# EAGLE library part ASM_ADAFRUIT_SOUND_FX_BOARD (library HUM-ASM-001)
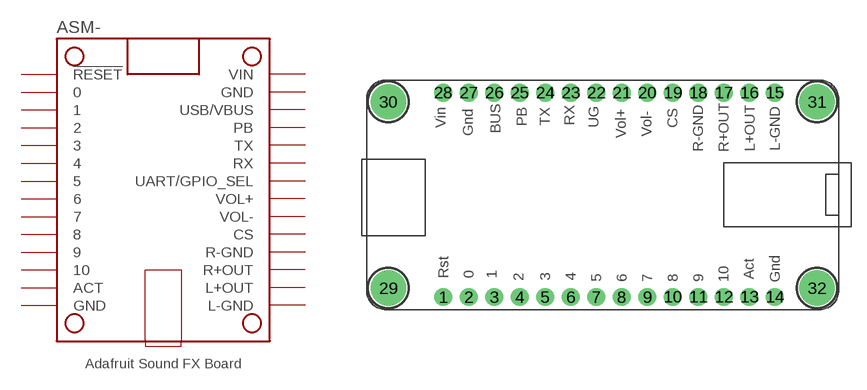
[diagram p2: symbol with the pads of ASM_ADAFRUIT_SOUND_FX_BOARD; footprint ASM_ADAFRUIT_SOUND_FX_BOARD]

Designator prefix ASM-

## ASM_ADAFRUIT_SOUND_FX_BOARD  [ASM_ADAFRUIT_SOUND_FX_BOARD]
1  !RESET  in
2  0  in
3  1  in
4  2  in
5  3  in
6  4  in
7  5  in
8  6  in
9  7  in
10  8  in
11  9  in
12  10  in
13  ACT  out
14  GND  pwr
15  L-GND  pwr
16  L+OUT  out
17  R+OUT  out
18  R-GND
19  CS  nc
20  VOL-  in
21  VOL+  in
22  UART/GPIO_SEL
23  RX  in
24  TX  out
25  PB  nc
26  USB/VBUS  sup
27  GND  pwr
28  VIN  pwr

## Footprint ASM_ADAFRUIT_SOUND_FX_BOARD (pad centres in mm)
drill 1 pad 1.778: 1 -15.38,-9.73; 2 -12.84,-9.73; 3 -10.3,-9.73; 4 -7.76,-9.73; 5 -5.22,-9.73; 6 -2.68,-9.73; 7 -0.14,-9.73; 8 2.4,-9.73; 9 4.94,-9.73; 10 7.48,-9.73; 11 10.02,-9.73; 12 12.56,-9.73; 13 15.1,-9.73; 14 17.64,-9.73; 15 17.64,10.59; 16 15.1,10.59; 17 12.56,10.59; 18 10.02,10.59; 19 7.48,10.59; 20 4.94,10.59; 21 2.4,10.59; 22 -0.14,10.59; 23 -2.68,10.59; 24 -5.22,10.59; 25 -7.76,10.59; 26 -10.3,10.59; 27 -12.84,10.59; 28 -15.38,10.59
drill 2.5 pad 3.2: 29 -20.841,-8.841; 30 -20.841,9.701; 31 21.831,9.701; 32 21.831,-8.841